# EAGLE library part DM3CS-SF (library DM3CS-SF)
MicroSD card connector, push-pull type MicroSD card connector, push-pull type Source: Datasheet <http://docs-europe.electrocomponents.com/webdocs/118f/0900766b8118f8bb.pdf>
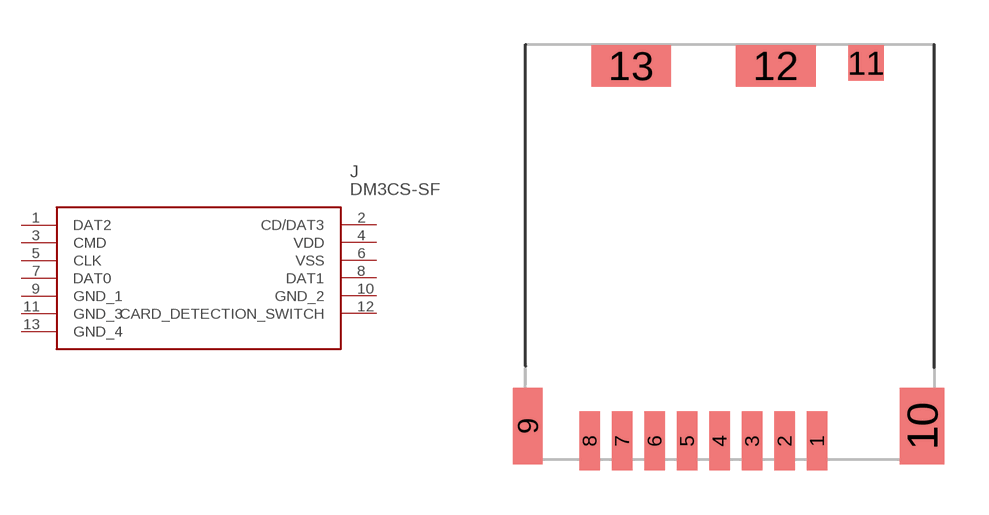
[diagram p0: symbol with the pads of DM3CS-SF; footprint DM3CS-SF]

Designator prefix J

## DM3CS-SF (Arrow_Part_Number: DM3CS-SF; Arrow_Price-Stock: https://www.arrow.com/en/products/dm3cs-sf/hirose-electric; Description: MicroSD card connector, push-pull type MicroSD card connector, push-pull type; Height: mm; Manufacturer_Name: Hirose; Manufacturer_Part_Number: DM3CS-SF; RS_Part_Number: 1664833; RS_Price-Stock: http://uk.rs-online.com/web/p/products/1664833)  [DM3CS-SF]
1  DAT2
2  CD/DAT3
3  CMD
4  VDD
5  CLK
6  VSS
7  DAT0
8  DAT1
9  GND_1
10  GND_2
11  GND_3
12  CARD_DETECTION_SWITCH
13  GND_4

## Footprint DM3CS-SF (pad centres in mm)
DM3CS-SF
smd 0.7 x 2: 1 0,0; 2 -1.1,0; 3 -2.2,0; 4 -3.3,0; 5 -4.4,0; 6 -5.5,0; 7 -6.6,0; 8 -7.7,0
smd 1 x 2.6: 9 -9.8,0.5
smd 1.5 x 2.6: 10 3.55,0.5
smd 1.2 x 1.2: 11 1.65,12.8
smd 2.7 x 1.4: 12 -1.4,12.7; 13 -6.3,12.7